# Altium footprint library Serial Port.PcbLib: 2 footprints
Each footprint in its own frame and in the unit in brackets; x right, y up, seen from the top. Pads: shape width x height; smd on the part's side, far side on the other; paste and mask are expansions set on the pad; w line width, h text height; cw(c..) or ccw(c..) is an arc to the next point about the centre after c.
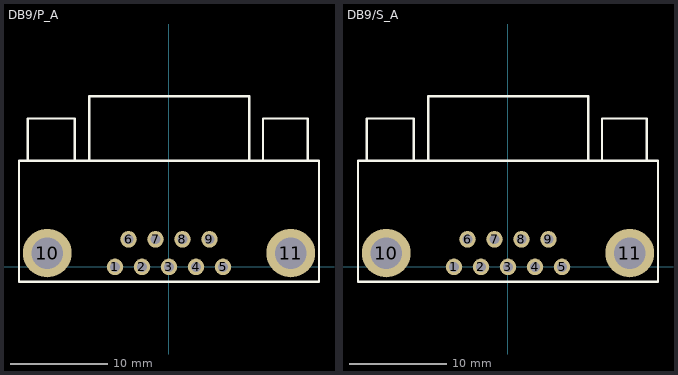
[diagram p0: the footprints below, top view; thin cyan lines are the x and y axes]

## DB9/P_A [mm] "9�빫ͷ����,31*18.5*12.5mm"
pads (11):
  round 1.7 hole 1: 1(-5.546,0) 2(-2.773,0) 3(0,0) 4(2.773,0) 5(5.546,0) 6(-4.155,2.84) 7(-1.385,2.84) 8(1.385,2.84) 9(4.155,2.84)
  round 5 hole 3.25: 10(-12.5,1.42) 11(12.5,1.42)
Top Overlay:
  lines w0.254: -14.478,10.922 -14.478,15.24 -9.652,15.24 -9.652,10.922 ; -8.175,10.922 -8.175,17.526 8.225,17.526 8.225,10.922 ; 9.652,10.922 9.652,15.24 14.224,15.24 14.224,10.922 ; -15.4,-1.524 -15.4,10.922 15.4,10.922 15.4,-1.524 -15.4,-1.524
3D body "DB9 ĸ_A.STEP": height 12.65, standoff -3.16, extent -15.45,-1.253 15.45,17.247

## DB9/S_A [mm] "9��ĸͷ����,31*18.5*12.5mm"
pads (11):
  round 1.7 hole 1: 1(-5.546,0) 2(-2.773,0) 3(0,0) 4(2.773,0) 5(5.546,0) 6(-4.155,2.84) 7(-1.385,2.84) 8(1.385,2.84) 9(4.155,2.84)
  round 5 hole 3.25: 10(-12.5,1.42) 11(12.5,1.42)
Top Overlay:
  lines w0.254: -14.478,10.922 -14.478,15.24 -9.652,15.24 -9.652,10.922 ; -8.175,10.922 -8.175,17.526 8.225,17.526 8.225,10.922 ; 9.652,10.922 9.652,15.24 14.224,15.24 14.224,10.922 ; -15.4,-1.524 -15.4,10.922 15.4,10.922 15.4,-1.524 -15.4,-1.524
3D body "DB9 ��_A.STEP": height 12.65, standoff -3.16, extent -15.45,-1.253 15.45,17.247